# EAGLE library part 2064VEP44 (library lattice)
LATTICE PROGRAMMABLE DEVICE Source: http://www.latticesemi.com/lit/docs/datasheets/cpld/2064v.pdf / 2064ve.pdf
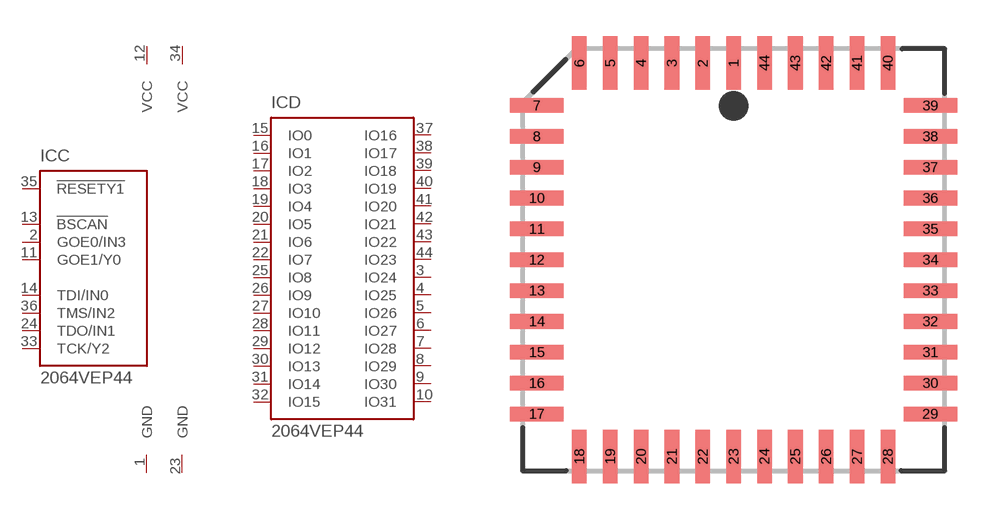
[diagram p6: symbol with the pads of PLCC44; footprint PLCC44]

Designator prefix IC; gates D=LSI2032 V1=VCC V2=VCC G1=GND G2=GND C=LSI2064C

## 2064VEP44  [PLCC44]
1  G1:GND  pwr
2  C:GOE0/IN3  in
3  D:IO24
4  D:IO25
5  D:IO26
6  D:IO27
7  D:IO28
8  D:IO29
9  D:IO30
10  D:IO31
11  C:GOE1/Y0  in
12  V1:VCC  pwr
13  C:!BSCAN  in
14  C:TDI/IN0  in
15  D:IO0
16  D:IO1
17  D:IO2
18  D:IO3
19  D:IO4
20  D:IO5
21  D:IO6
22  D:IO7
23  G2:GND  pwr
24  C:TDO/IN1  in
25  D:IO8
26  D:IO9
27  D:IO10
28  D:IO11
29  D:IO12
30  D:IO13
31  D:IO14
32  D:IO15
33  C:TCK/Y2  in
34  V2:VCC  pwr
35  C:!RESETY1  in
36  C:TMS/IN2  in
37  D:IO16
38  D:IO17
39  D:IO18
40  D:IO19
41  D:IO20
42  D:IO21
43  D:IO22
44  D:IO23

## Footprint PLCC44 (pad centres in mm)
Plastic Leaded Chip Carrier
smd 0.6 x 2.2: 1 0,8.1; 2 -1.27,8.1; 3 -2.54,8.1; 4 -3.81,8.1; 5 -5.08,8.1; 6 -6.35,8.1; 18 -6.35,-8.1; 19 -5.08,-8.1; 20 -3.81,-8.1; 21 -2.54,-8.1; 22 -1.27,-8.1; 23 0,-8.1; 24 1.27,-8.1; 25 2.54,-8.1; 26 3.81,-8.1; 27 5.08,-8.1; 28 6.35,-8.1; 40 6.35,8.1; 41 5.08,8.1; 42 3.81,8.1; 43 2.54,8.1; 44 1.27,8.1
smd 2.2 x 0.6: 7 -8.1,6.35; 8 -8.1,5.08; 9 -8.1,3.81; 10 -8.1,2.54; 11 -8.1,1.27; 12 -8.1,0; 13 -8.1,-1.27; 14 -8.1,-2.54; 15 -8.1,-3.81; 16 -8.1,-5.08; 17 -8.1,-6.35; 29 8.1,-6.35; 30 8.1,-5.08; 31 8.1,-3.81; 32 8.1,-2.54; 33 8.1,-1.27; 34 8.1,0; 35 8.1,1.27; 36 8.1,2.54; 37 8.1,3.81; 38 8.1,5.08; 39 8.1,6.35